# EAGLE library part LTC2924IGN (library linear-technology-jqi)
LTC2924, quad power supply sequencer
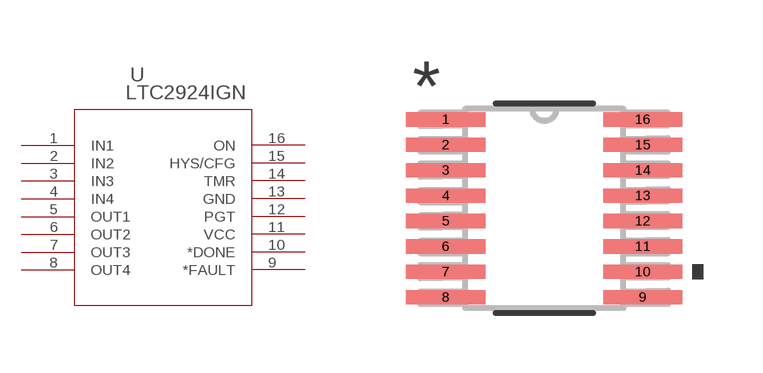
[diagram p0: symbol with the pads of SSOP-16_GN; footprint SSOP-16_GN]

Designator prefix U

## LTC2924IGN (MANUFACTURER_PART_NUMBER: ltc2924ign; VENDOR: Linear Technology)  [SSOP-16_GN]
1  IN1  in
2  IN2  in
3  IN3  in
4  IN4  in
5  OUT1  out
6  OUT2  out
7  OUT3  out
8  OUT4  out
9  *FAULT  pas
10  *DONE  out
11  VCC  pwr
12  PGT  pas
13  GND  pwr
14  TMR  pas
15  HYS/CFG  pas
16  ON  pas

## Footprint SSOP-16_GN (pad centres in mm)
smd 1.981 x 0.356: 1 -2.464,2.223; 2 -2.464,1.587; 3 -2.464,0.953; 4 -2.464,0.318; 5 -2.464,-0.318; 6 -2.464,-0.953; 7 -2.464,-1.587; 8 -2.464,-2.223; 9 2.464,-2.223; 10 2.464,-1.587; 11 2.464,-0.953; 12 2.464,-0.318; 13 2.464,0.318; 14 2.464,0.953; 15 2.464,1.587; 16 2.464,2.223